# EAGLE library part DT13-6P (library DT13-6P)
Body Features: Primary Product Color Gray | Configuration Features: Number of Sections 1 | PCB Mount Orientation Right Angle | Number of Positions 6 | Number of Rows 2 | Number of Signal Positions 6 | Contact Features: Contact Size Size 16 | Contact Mating Area Plating Material Nickel | Mating Pin Diameter 1.59 MM | Mating Pin Diameter .063 INCH | Contact Current Rating (Max) 13 AMP | Contact Type Pin | Dimensions: Connector Width 1.685 INCH | PCB Thickness (Recommended) .031 .093 INCH | Profile Height Source: Datasheet <https://www.te.com/commerce/DocumentDelivery/DDEController?Action=srchrtrv&DocNm=1-1773962-8&DocType=Data Sheet&DocLang=English&PartCntxt=DT13-6P&DocFormat=pdf>
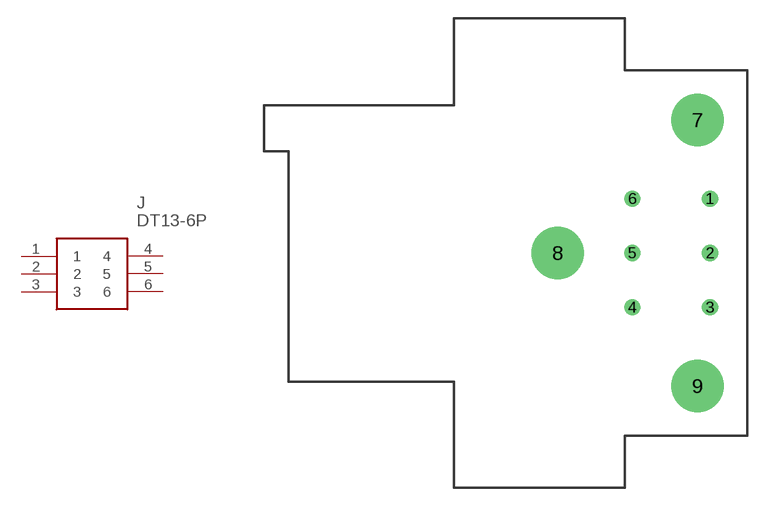
[diagram p0: symbol with the pads of DT13-6P; footprint DT13-6P]

Designator prefix J

## DT13-6P (Description: Body Features: Primary Product Color Gray | Configuration Features: Number of Sections 1 | PCB Mount Orientation Right Angle | Number of Positions 6 | Number of Rows 2 | Number of Signal Positions 6 | Contact Features: Contact Size Size 16 | Contact Mating Area Plating Material Nickel | Mating Pin Diameter 1.59 MM | Mating Pin Diameter .063 INCH | Contact Current Rating (Max) 13 AMP | Contact Type Pin | Dimensions: Connector Width 1.685 INCH | PCB Thickness (Recommended) .031 .093 INCH | Profile Height; Height: mm; Manufacturer_Name: TE Connectivity; Manufacturer_Part_Number: DT13-6P; Mouser_Part_Number: 571-DT13-6P; Mouser_Price-Stock: https://www.mouser.co.uk/ProductDetail/TE-Connectivity-DEUTSCH/DT13-6P?qs=vkMqrgFpRajx%2FDSFtsLl9w%3D%3D)  [DT13-6P]
1  1
2  2
3  3
4  4
5  5
6  6

## Footprint DT13-6P (pad centres in mm)
DT13-6P
drill 0.815 pad 1.3: 1 -3.04,4.44; 2 -3.04,0; 3 -3.04,-4.44; 4 -9.39,-4.44; 5 -9.39,0; 6 -9.39,4.44
drill 2.99 pad 4.3: 7 -4.06,10.87; 8 -15.49,0; 9 -4.06,-10.87